# Altium footprint library FIL_NFA18SL307V1A45L.PcbLib: 1 footprints
Each footprint in its own frame and in the unit in brackets; x right, y up, seen from the top. Pads: shape width x height; smd on the part's side, far side on the other; paste and mask are expansions set on the pad; w line width, h text height; cw(c..) or ccw(c..) is an arc to the next point about the centre after c.
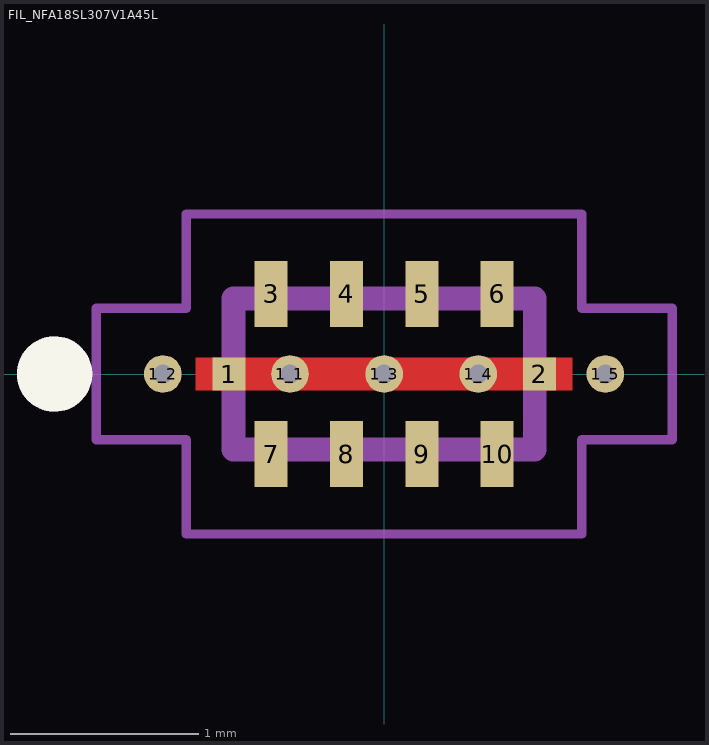
[diagram p0: the footprint, top view; thin cyan lines are the x and y axes]

## FIL_NFA18SL307V1A45L [mm]
pads (15):
  rect 0.175x0.175 smd paste-1 mask+0: 1(-0.825,0) 2(0.825,0)
  round 0.2 hole 0.1 mask+0: 1_1(-0.5,0) 1_2(-1.175,0) 1_3(0,0) 1_4(0.5,0) 1_5(1.175,0)
  rect 0.175x0.35 smd mask+0: 3(-0.6,0.425) 4(-0.2,0.425) 5(0.2,0.425) 6(0.6,0.425) 7(-0.6,-0.425) 8(-0.2,-0.425) 9(0.2,-0.425) 10(0.6,-0.425)
Top Layer:
  region: 1,-0.088 -1,-0.088 -1,0.088 1,0.088
Top Overlay:
  circle w0.2: c-1.75,0 r0.1
Top Paste:
  region: -0.65,0.038 -0.65,-0.038 -0.7,-0.088 -1,-0.088 -1,0.088 -0.7,0.088
  region: 1,-0.088 0.7,-0.088 0.65,-0.038 0.65,0.038 0.7,0.088 1,0.088
Top Solder:
  region: -0.65,0.038 -0.65,-0.038 -0.7,-0.088 -1,-0.088 -1,0.088 -0.7,0.088
  region: 1,-0.088 0.7,-0.088 0.65,-0.038 0.65,0.038 0.7,0.088 1,0.088
  region: -0.513,0.25 -0.687,0.25 -0.687,0.6 -0.513,0.6
  region: -0.112,0.25 -0.288,0.25 -0.288,0.6 -0.112,0.6
  region: 0.288,0.25 0.112,0.25 0.112,0.6 0.288,0.6
  region: 0.687,0.25 0.513,0.25 0.513,0.6 0.687,0.6
  region: -0.513,-0.6 -0.687,-0.6 -0.687,-0.25 -0.513,-0.25
  region: -0.112,-0.6 -0.288,-0.6 -0.288,-0.25 -0.112,-0.25
  region: 0.288,-0.6 0.112,-0.6 0.112,-0.25 0.288,-0.25
  region: 0.687,-0.6 0.513,-0.6 0.513,-0.25 0.687,-0.25
Mechanical 13:
  circle w0.2: c-1.75,0 r0.1
  lines w0.127: -0.8,-0.4 0.8,-0.4 0.8,0.4 -0.8,0.4 -0.8,-0.4
Mechanical 15:
  lines w0.05: -1.53,-0.35 -1.53,0.35 -1.05,0.35 -1.05,0.85 1.05,0.85 1.05,0.35 1.53,0.35 1.53,-0.35 1.05,-0.35 1.05,-0.85 -1.05,-0.85 -1.05,-0.35 -1.53,-0.35